# Altium schematic symbol library AIGateway3.SchLib: 6 symbols
Pins are listed as number, name and electrical type; pins without a type are passive.

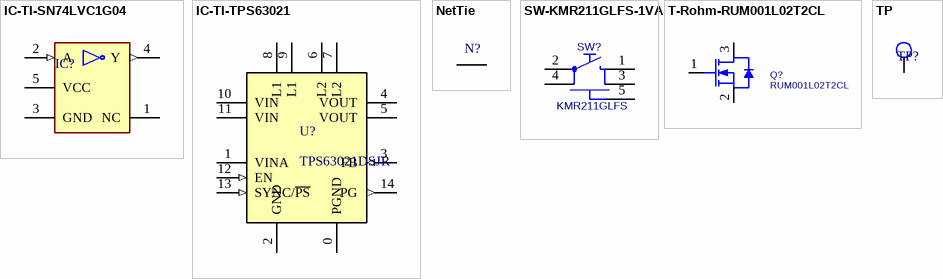
[diagram p0: symbols IC-TI-SN74LVC1G04 to TP]

## IC-TI-SN74LVC1G04
designator IC?, comment SN74LVC1G04  (value not drawn)
IC INVERTER 1CH 1-INP SC70-5; Manufacturer Name: Texas Instruments; Supplier 1: Digi-Key; Supplier Part Number 1: 296-11600-1-ND; Manufacturer Part No.: SN74LVC1G04
footprint SOT65P210X110-5N
pins: 1 NC, 2 A (in), 3 GND (power), 4 Y (out), 5 VCC (power)

## IC-TI-TPS63021
designator U?, comment TPS63021DSJR
Buck-Boost Switching Regulator IC Positive Fixed 3.3V 1 Output 3.5A (Switch) 14-VFDFN Exposed Pad; Manufacturer: Texas Instruments; PartNumber: TPS63021; RefDes: RefDes; Type: DEV; Value: Value; Supplier 1: Digi-Key; Supplier Part Number 1: 296-27259-1-ND
footprint DSJ14_2P85X1P58
pins: 0 PGND, 1 VINA (power), 2 GND (power), 3 FB (in), 4 VOUT (power), 5 VOUT (power), 6 L2 (power), 7 L2 (power), 8 L1 (power), 9 L1 (power), 10 VIN (power), 11 VIN (power), 12 EN (in), 13 SYNC/~{PS} (in), 14 PG (out)

## NetTie
designator N?  (value not drawn)  (net tie, no BOM)
pins: 1, 2

## SW-KMR211GLFS-1VA
designator SW?, comment KMR211GLFS
Power ON Switch; Manufacturer Name: C&N; Rating: 1VA; Manufacturer Part No.: KMR211GLFS; Supplier 1: Digi-Key; Supplier Part Number 1: 401-1426-1-ND
footprint T_CnK_KMR211GLFS (Microminiature Tact Switch for SMT)
pins: 1, 2, 3, 4, 5

## T-Rohm-RUM001L02T2CL
designator Q?, comment RUM001L02T2CL
N-Channel 20V 100mA (Ta) 150mW (Ta) Surface Mount VMT3; FP_DESC: SOT-723; MFG: Rohm Semiconductor Inc.; MFG_PN: RUM001L02T2CL; Footprint Checked: Ok; Simbol Checked: -; Supplier 1: Digi-Key; Supplier 2: Digi-Key; Supplier Part Number 1: RUM001L02T2CLCT-ND; Supplier Part Number 2: RUM001L02T2CLDKR-ND
footprint SOT95P230X110-3N (SOT23, 3-Leads, Body 2.9x1.3mm, Pitch 0.95mm, Lead Span 2.5mm, IPC Medium Density)
pins: 1 G, 2 D, 3 S

## TP
designator TP?, comment Test point  (value not drawn)  (no BOM)
footprint TP
pins: 1